# EAGLE library part M-2X22- (library con-headers-jp)
MALE HEADER
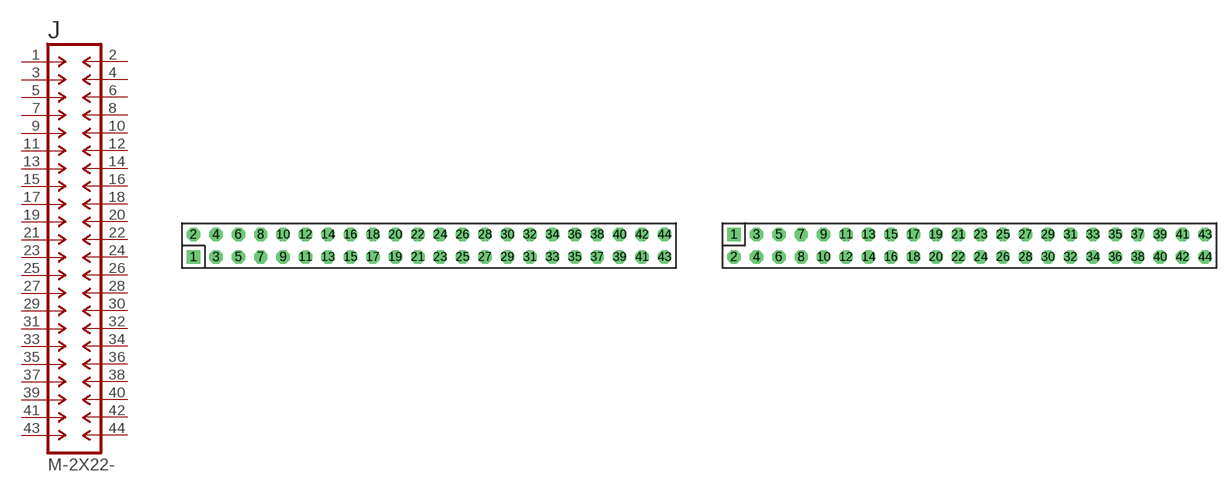
[diagram p73: symbol with the pads of DIL-100-2X22; footprints DIL-100-2X22, DIL-100-2X22_M]

Designator prefix J

## M-2X22-DIL-100  [DIL-100-2X22]
1  1  pas
2  2  pas
3  3  pas
4  4  pas
5  5  pas
6  6  pas
7  7  pas
8  8  pas
9  9  pas
10  10  pas
11  11  pas
12  12  pas
13  13  pas
14  14  pas
15  15  pas
16  16  pas
17  17  pas
18  18  pas
19  19  pas
20  20  pas
21  21  pas
22  22  pas
23  23  pas
24  24  pas
25  25  pas
26  26  pas
27  27  pas
28  28  pas
29  29  pas
30  30  pas
31  31  pas
32  32  pas
33  33  pas
34  34  pas
35  35  pas
36  36  pas
37  37  pas
38  38  pas
39  39  pas
40  40  pas
41  41  pas
42  42  pas
43  43  pas
44  44  pas

## M-2X22-DIL-100_M  [DIL-100-2X22_M]
Pads as for DIL-100-2X22

## M-2X22-DIL-2MM  [DIL-2MM-2X22]
Pads as for DIL-100-2X22

## M-2X22-DIL-2MM_M  [DIL-2MM-2X22_M]
Pads as for DIL-100-2X22

## Footprint DIL-100-2X22 (pad centres in mm)
PIN HEADER - 0.1"
drill 1.016 square: 1 -26.67,-1.27
drill 1.016 octagon: 2 -26.67,1.27; 3 -24.13,-1.27; 4 -24.13,1.27; 5 -21.59,-1.27; 6 -21.59,1.27; 7 -19.05,-1.27; 8 -19.05,1.27; 9 -16.51,-1.27; 10 -16.51,1.27; 11 -13.97,-1.27; 12 -13.97,1.27; 13 -11.43,-1.27; 14 -11.43,1.27; 15 -8.89,-1.27; 16 -8.89,1.27; 17 -6.35,-1.27; 18 -6.35,1.27; 19 -3.81,-1.27; 20 -3.81,1.27; 21 -1.27,-1.27; 22 -1.27,1.27; 23 1.27,-1.27; 24 1.27,1.27; 25 3.81,-1.27; 26 3.81,1.27; 27 6.35,-1.27; 28 6.35,1.27; 29 8.89,-1.27; 30 8.89,1.27; 31 11.43,-1.27; 32 11.43,1.27; 33 13.97,-1.27; 34 13.97,1.27; 35 16.51,-1.27; 36 16.51,1.27; 37 19.05,-1.27; 38 19.05,1.27; 39 21.59,-1.27; 40 21.59,1.27; 41 24.13,-1.27; 42 24.13,1.27; 43 26.67,-1.27; 44 26.67,1.27

## Footprint DIL-100-2X22_M (pad centres in mm)
PIN HEADER - MIRRORED 0.1"
drill 1.016 square: 1 -26.67,1.27
drill 1.016 octagon: 2 -26.67,-1.27; 3 -24.13,1.27; 4 -24.13,-1.27; 5 -21.59,1.27; 6 -21.59,-1.27; 7 -19.05,1.27; 8 -19.05,-1.27; 9 -16.51,1.27; 10 -16.51,-1.27; 11 -13.97,1.27; 12 -13.97,-1.27; 13 -11.43,1.27; 14 -11.43,-1.27; 15 -8.89,1.27; 16 -8.89,-1.27; 17 -6.35,1.27; 18 -6.35,-1.27; 19 -3.81,1.27; 20 -3.81,-1.27; 21 -1.27,1.27; 22 -1.27,-1.27; 23 1.27,1.27; 24 1.27,-1.27; 25 3.81,1.27; 26 3.81,-1.27; 27 6.35,1.27; 28 6.35,-1.27; 29 8.89,1.27; 30 8.89,-1.27; 31 11.43,1.27; 32 11.43,-1.27; 33 13.97,1.27; 34 13.97,-1.27; 35 16.51,1.27; 36 16.51,-1.27; 37 19.05,1.27; 38 19.05,-1.27; 39 21.59,1.27; 40 21.59,-1.27; 41 24.13,1.27; 42 24.13,-1.27; 43 26.67,1.27; 44 26.67,-1.27

## Footprint DIL-2MM-2X22 (pad centres in mm)
PIN HEADER - 2MM
drill 0.711 square: 1 -21,-1
drill 0.711: 2 -21,1; 3 -19,-1; 4 -19,1; 5 -17,-1; 6 -17,1; 7 -15,-1; 8 -15,1; 9 -13,-1; 10 -13,1; 11 -11,-1; 12 -11,1; 13 -9,-1; 14 -9,1; 15 -7,-1; 16 -7,1; 17 -5,-1; 18 -5,1; 19 -3,-1; 20 -3,1; 21 -1,-1; 22 -1,1; 23 1,-1; 24 1,1; 25 3,-1; 26 3,1; 27 5,-1; 28 5,1; 29 7,-1; 30 7,1; 31 9,-1; 32 9,1; 33 11,1; 34 11,-1; 35 13,1; 36 13,-1; 37 15,1; 38 15,-1; 39 17,1; 40 17,-1; 41 19,-1; 42 19,1; 43 21,-1; 44 21,1

## Footprint DIL-2MM-2X22_M (pad centres in mm)
PIN HEADER - MIRRORED 2MM
drill 0.711 square: 1 -21,1
drill 0.711: 2 -21,-1; 3 -19,1; 4 -19,-1; 5 -17,1; 6 -17,-1; 7 -15,1; 8 -15,-1; 9 -13,1; 10 -13,-1; 11 -11,1; 12 -11,-1; 13 -9,1; 14 -9,-1; 15 -7,1; 16 -7,-1; 17 -5,1; 18 -5,-1; 19 -3,1; 20 -3,-1; 21 -1,1; 22 -1,-1; 23 1,1; 24 1,-1; 25 3,1; 26 3,-1; 27 5,1; 28 5,-1; 29 7,1; 30 7,-1; 31 9,1; 32 9,-1; 33 11,-1; 34 11,1; 35 13,-1; 36 13,1; 37 15,-1; 38 15,1; 39 17,-1; 40 17,1; 41 19,1; 42 19,-1; 43 21,1; 44 21,-1